# Altium footprint library VOLTAGE_REG(2.3-5.5V, BST, 5V, 5A, 10VSON).PcbLib: 1 footprints
Each footprint in its own frame and in the unit in brackets; x right, y up, seen from the top. Pads: shape width x height; smd on the part's side, far side on the other; paste and mask are expansions set on the pad; w line width, h text height; cw(c..) or ccw(c..) is an arc to the next point about the centre after c.
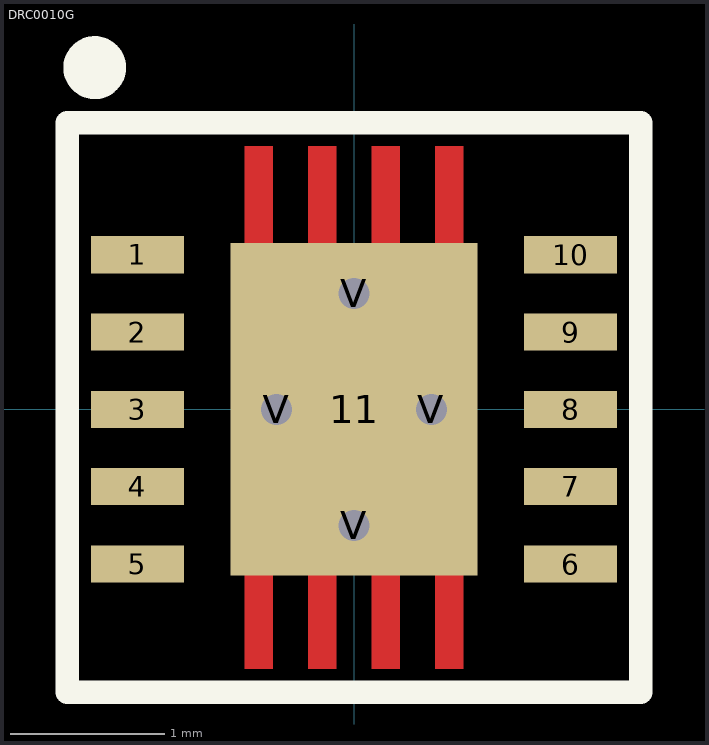
[diagram p0: the footprint, top view; thin cyan lines are the x and y axes]

## DRC0010G [mm]
pads (15):
  rect 0.6x0.24 smd mask+0.051: 1(-1.4,1) 2(-1.4,0.5) 3(-1.4,0) 4(-1.4,-0.5) 5(-1.4,-1) 6(1.4,-1) 7(1.4,-0.5) 8(1.4,0) 9(1.4,0.5) 10(1.4,1)
  rect 1.6x2.15 smd paste-0.825 mask+0.051: 11(0,0)
  round 0.5 hole 0.2 paste-2539.97 mask+0.051: V(-0.5,0) V(0,-0.75) V(0,0.75) V(0.5,0)
Top Layer:
  region: 0.705,-1.676 0.705,-1.05 0.525,-1.05 0.525,-1.676
  region: 0.295,-1.676 0.295,-1.05 0.115,-1.05 0.115,-1.676
  region: -0.115,-1.676 -0.115,-1.05 -0.295,-1.05 -0.295,-1.676
  region: -0.525,-1.676 -0.525,-1.05 -0.705,-1.05 -0.705,-1.676
  region: -0.525,1.05 -0.525,1.702 -0.705,1.702 -0.705,1.05
  region: -0.115,1.05 -0.115,1.702 -0.295,1.702 -0.295,1.05
  region: 0.295,1.05 0.295,1.702 0.115,1.702 0.115,1.05
  region: 0.705,1.05 0.705,1.702 0.525,1.702 0.525,1.05
Top Overlay:
  circle w0.254: c-1.676,2.21 r0.076
  lines w0.152: -1.854,-1.829 1.854,-1.829 1.854,1.854 -1.854,1.854 -1.854,-1.829
Top Paste:
  drawing of 10 lines, arcs and shapes, not listed
Top Solder:
  region: 0.756,-1.727 0.756,-0.999 0.474,-0.999 0.474,-1.727
  region: 0.346,-1.727 0.346,-0.999 0.064,-0.999 0.064,-1.727
  region: -0.064,-1.727 -0.064,-0.999 -0.346,-0.999 -0.346,-1.727
  region: -0.474,-1.727 -0.474,-0.999 -0.756,-0.999 -0.756,-1.727
  region: -0.474,0.999 -0.474,1.753 -0.756,1.753 -0.756,0.999
  region: -0.064,0.999 -0.064,1.753 -0.346,1.753 -0.346,0.999
  region: 0.346,0.999 0.346,1.753 0.064,1.753 0.064,0.999
  region: 0.756,0.999 0.756,1.753 0.474,1.753 0.474,0.999
3D body "TPS61232DRCR.STEP": height 1, standoff 0, extent -1.5,-1.5 1.5,1.5